# Altium schematic symbol library SCH - BRIDGE RECTIFIER - BOURNS CD-MBL1XXS.SCHLIB: 1 symbol
Pins are listed as number, name and electrical type; pins without a type are passive.

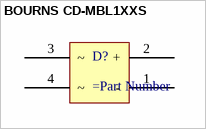
[diagram p0: symbol BOURNS CD-MBL1XXS]

## BOURNS CD-MBL1XXS
designator D?
pins: 1 -, 2 +, 3 ~, 4 ~